# Altium schematic symbol library LM358AM.SchLib: 1 symbol
Pins are listed as number, name and electrical type; pins without a type are passive.

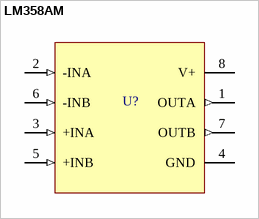
[diagram p0: symbol LM358AM]

## LM358AM
designator U?
Operational Amplifiers - Op Amps LOW PWR DUAL OP AMP
pins: 1 OUTA (out), 2 -INA (in), 3 +INA (in), 4 GND (power), 5 +INB (in), 6 -INB (in), 7 OUTB (out), 8 V+ (power)